# Altium schematic symbol library DRV134PA.SchLib: 1 symbol
Pins are listed as number, name and electrical type; pins without a type are passive.

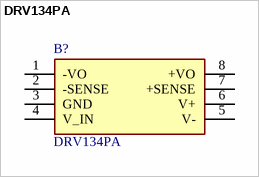
[diagram p0: symbol DRV134PA]

## DRV134PA
designator B?
DRV134PA, Audio Amplifier 46dB +85 C 8-Pin PDIP; Manufacturer_Name: Texas Instruments; Geometry.Height: 5.08mm; Manufacturer_Part_Number: DRV134PA; Mouser Part Number: 595-DRV134PA; Mouser Price/Stock: https://www.mouser.co.uk/ProductDetail/Texas-Instruments/DRV134PA?qs=VBduBm9rCJQB2pI5Sv36eQ%3D%3D; Arrow Part Number: DRV134PA; Arrow Price/Stock: https://www.arrow.com/en/products/drv134pa/texas-instruments.html?utm_currency=USD&region=nac; Datasheet Link: http://www.ti.com/lit/ds/symlink/drv134.pdf
footprint DIP794W53P254L959H508Q8N
pins: 1 -VO, 2 -SENSE, 3 GND, 4 V_IN, 5 V-, 6 V+, 7 +SENSE, 8 +VO